# Altium schematic symbol library mthnp2p2.SchLib: 1 symbol
Pins are listed as number, name and electrical type; pins without a type are passive.

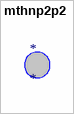
[diagram p0: symbol mthnp2p2]

## mthnp2p2
designator *
footprint mthnp2p2